# EAGLE library part 4500 (library 45xx)
Industrial CONTROL UNIT
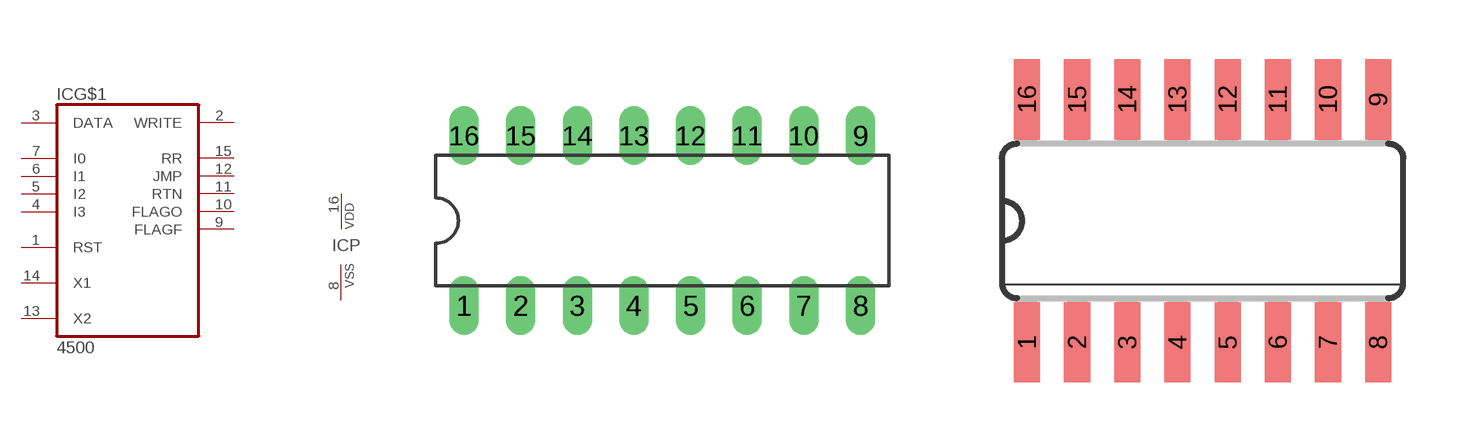
[diagram p18: symbol with the pads of DIL16; footprints DIL16, SO16]

Designator prefix IC; gates G$1=4500 P=PWRN

## 4500N  [DIL16]
1  G$1:RST  in
2  G$1:WRITE  out
3  G$1:DATA
4  G$1:I3  in
5  G$1:I2  in
6  G$1:I1  in
7  G$1:I0  in
8  P:VSS  pwr
9  G$1:FLAGF  out
10  G$1:FLAGO  out
11  G$1:RTN  out
12  G$1:JMP  out
13  G$1:X2  in
14  G$1:X1  out
15  G$1:RR  out
16  P:VDD  pwr

## 4500D  [SO16]
Pads as for DIL16

## Footprint DIL16 (pad centres in mm)
Dual In Line Package
drill 0.813 long: 1 -8.89,-3.81; 2 -6.35,-3.81; 3 -3.81,-3.81; 4 -1.27,-3.81; 5 1.27,-3.81; 6 3.81,-3.81; 7 6.35,-3.81; 8 8.89,-3.81; 9 8.89,3.81; 10 6.35,3.81; 11 3.81,3.81; 12 1.27,3.81; 13 -1.27,3.81; 14 -3.81,3.81; 15 -6.35,3.81; 16 -8.89,3.81

## Footprint SO16 (pad centres in mm)
Small Outline package 150 mil
smd 0.66 x 2.032: 1 -4.445,-3.073; 2 -3.175,-3.073; 3 -1.905,-3.073; 4 -0.635,-3.073; 5 0.635,-3.073; 6 1.905,-3.073; 7 3.175,-3.073; 8 4.445,-3.073; 9 4.445,3.073; 10 3.175,3.073; 11 1.905,3.073; 12 0.635,3.073; 13 -0.635,3.073; 14 -1.905,3.073; 15 -3.175,3.073; 16 -4.445,3.073